# Altium footprint library 67-23SDRSUGSUBC_TR8.PcbLib: 1 footprints
Each footprint in its own frame and in the unit in brackets; x right, y up, seen from the top. Pads: shape width x height; smd on the part's side, far side on the other; paste and mask are expansions set on the pad; w line width, h text height; cw(c..) or ccw(c..) is an arc to the next point about the centre after c.
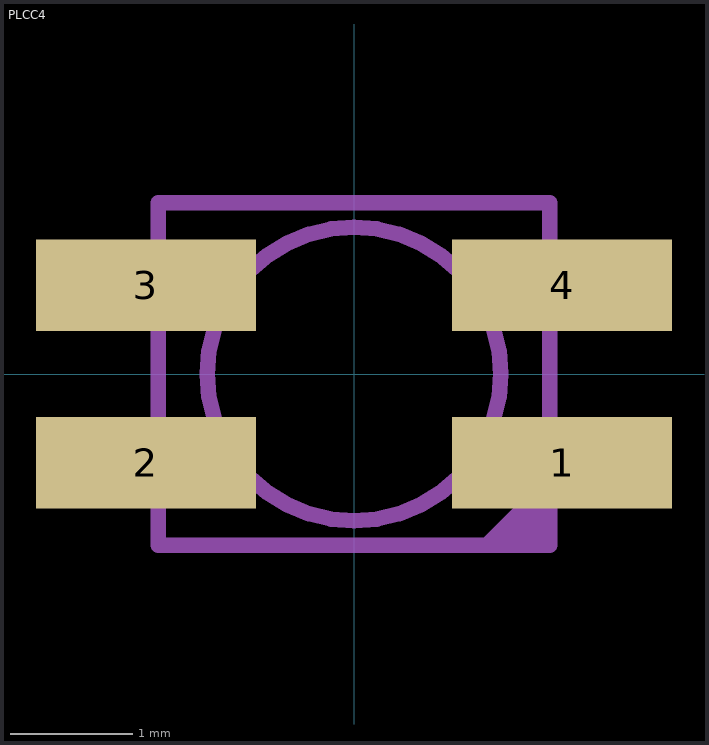
[diagram p0: the footprint, top view; thin cyan lines are the x and y axes]

## PLCC4 [mm]
pads (4):
  rect 1.8x0.75 smd: 1(1.7,-0.725) 2(-1.7,-0.725) 3(-1.7,0.725) 4(1.7,0.725)
Mechanical 1:
  circle w0.127: c0,0 r1.2
  region: 1.6,1 1.8,1 1.8,0.4 1.6,0.4
  region: 1.6,-0.4 1.8,-0.4 1.8,-1 1.6,-1
  region: -1.6,-0.4 -1.8,-0.4 -1.8,-1 -1.6,-1
  region: -1.6,1 -1.8,1 -1.8,0.4 -1.6,0.4
  region: 1.6,-0.8 1,-1.4 1.6,-1.4
  lines w0.127: -1.6,-1.4 -1.6,1.4 1.6,1.4 1.6,-1.4 -1.6,-1.4